# EAGLE library part CONN-MOLEX-MICROFIT-6PIN (library FirePick)
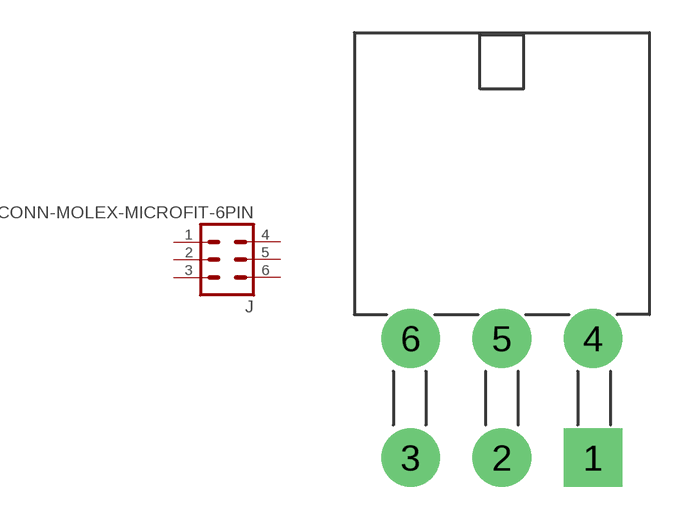
[diagram p6: symbol with the pads of CONN-MOLEX-MINIFIT-6PIN-2ROW; footprint CONN-MOLEX-MINIFIT-6PIN-2ROW]

Designator prefix J

## CONN-MOLEX-MICROFIT-6PIN  [CONN-MOLEX-MINIFIT-6PIN-2ROW]
1  1  pas
2  2  pas
3  3  pas
4  4  pas
5  5  pas
6  6  pas

## Footprint CONN-MOLEX-MINIFIT-6PIN-2ROW (pad centres in mm)
drill 1.8 square: 1 4.2,0
drill 1.8: 2 0,0; 3 -4.2,0; 4 4.2,5.5; 5 0,5.5; 6 -4.2,5.5